# Altium footprint library IPC-7352 SOT89_L.PcbLib: 1 footprints
Each footprint in its own frame and in the unit in brackets; x right, y up, seen from the top. Pads: shape width x height; smd on the part's side, far side on the other; paste and mask are expansions set on the pad; w line width, h text height; cw(c..) or ccw(c..) is an arc to the next point about the centre after c.
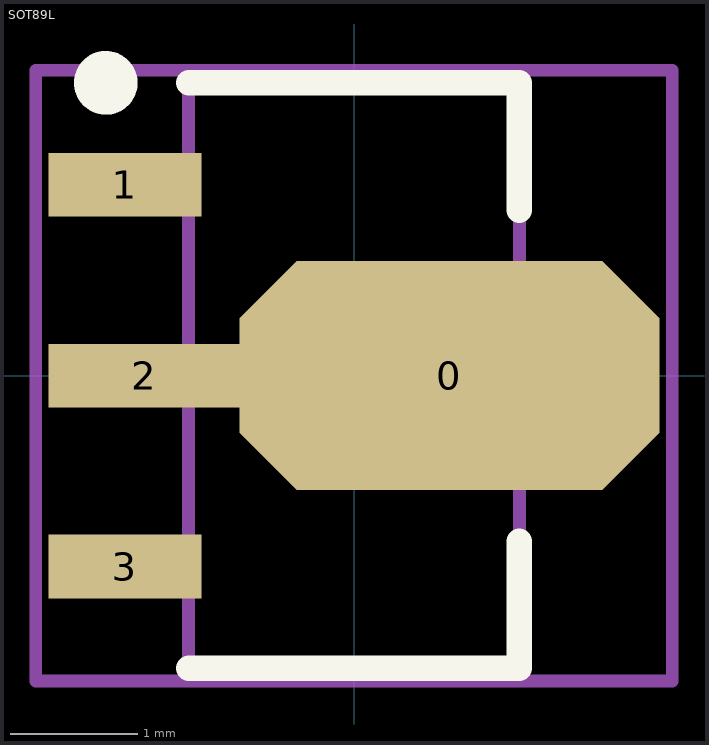
[diagram p0: the footprint, top view; thin cyan lines are the x and y axes]

## SOT89L [mm] "SOT, 3-Leads, Body 4.6 x 2.6 mm, Pitch 1.5mm, IPC High Density"
height 1.8
pads (4):
  oct 3.3x1.8 smd: 0(0.75,0)
  rect 1.2x0.5 smd: 1(-1.8,1.5) 3(-1.8,-1.5)
  rect 1.5x0.5 smd: 2(-1.65,0)
Top Overlay:
  circle w0.25: c-1.95,2.3 r0.125
  lines w0.2: -1.3,-2.3 1.3,-2.3 1.3,-1.3 ; -1.3,2.3 1.3,2.3 1.3,1.3
Mechanical 13:
  lines w0.1: -1.3,-2.3 1.3,-2.3 1.3,2.3 -1.3,2.3 -1.3,-2.3
Mechanical 15:
  lines w0.1: -0.5,0 0.5,0 ; 0,-0.5 0,0.5 ; -2.5,-2.4 2.5,-2.4 2.5,2.4 -2.5,2.4 -2.5,-2.4
3D body: height 1.8, standoff 0, extent -1.3,-2.3 1.3,2.3